# Altium schematic symbol library A3992LP.SchLib: 1 symbol
Pins are listed as number, name and electrical type; pins without a type are passive.

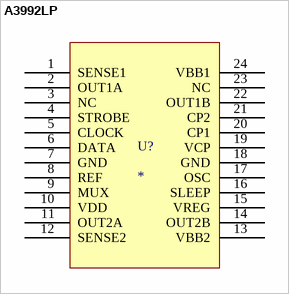
[diagram p0: symbol A3992LP]

## A3992LP
designator U?
Motor Stepper Driver Serial 50V 1.5A
footprint TSSOP24
pins: 1 SENSE1, 2 OUT1A, 3 NC, 4 STROBE, 5 CLOCK, 6 DATA, 7 GND, 8 REF, 9 MUX, 10 VDD, 11 OUT2A, 12 SENSE2, 13 VBB2, 14 OUT2B, 15 VREG, 16 SLEEP, 17 OSC, 18 GND, 19 VCP, 20 CP1, 21 CP2, 22 OUT1B, 23 NC, 24 VBB1